# Altium footprint library Basic_fp_lib.PcbLib: 47 footprints (part 3 of 3)
Each footprint in its own frame and in the unit in brackets; x right, y up, seen from the top. Pads: shape width x height; smd on the part's side, far side on the other; paste and mask are expansions set on the pad; w line width, h text height; cw(c..) or ccw(c..) is an arc to the next point about the centre after c.
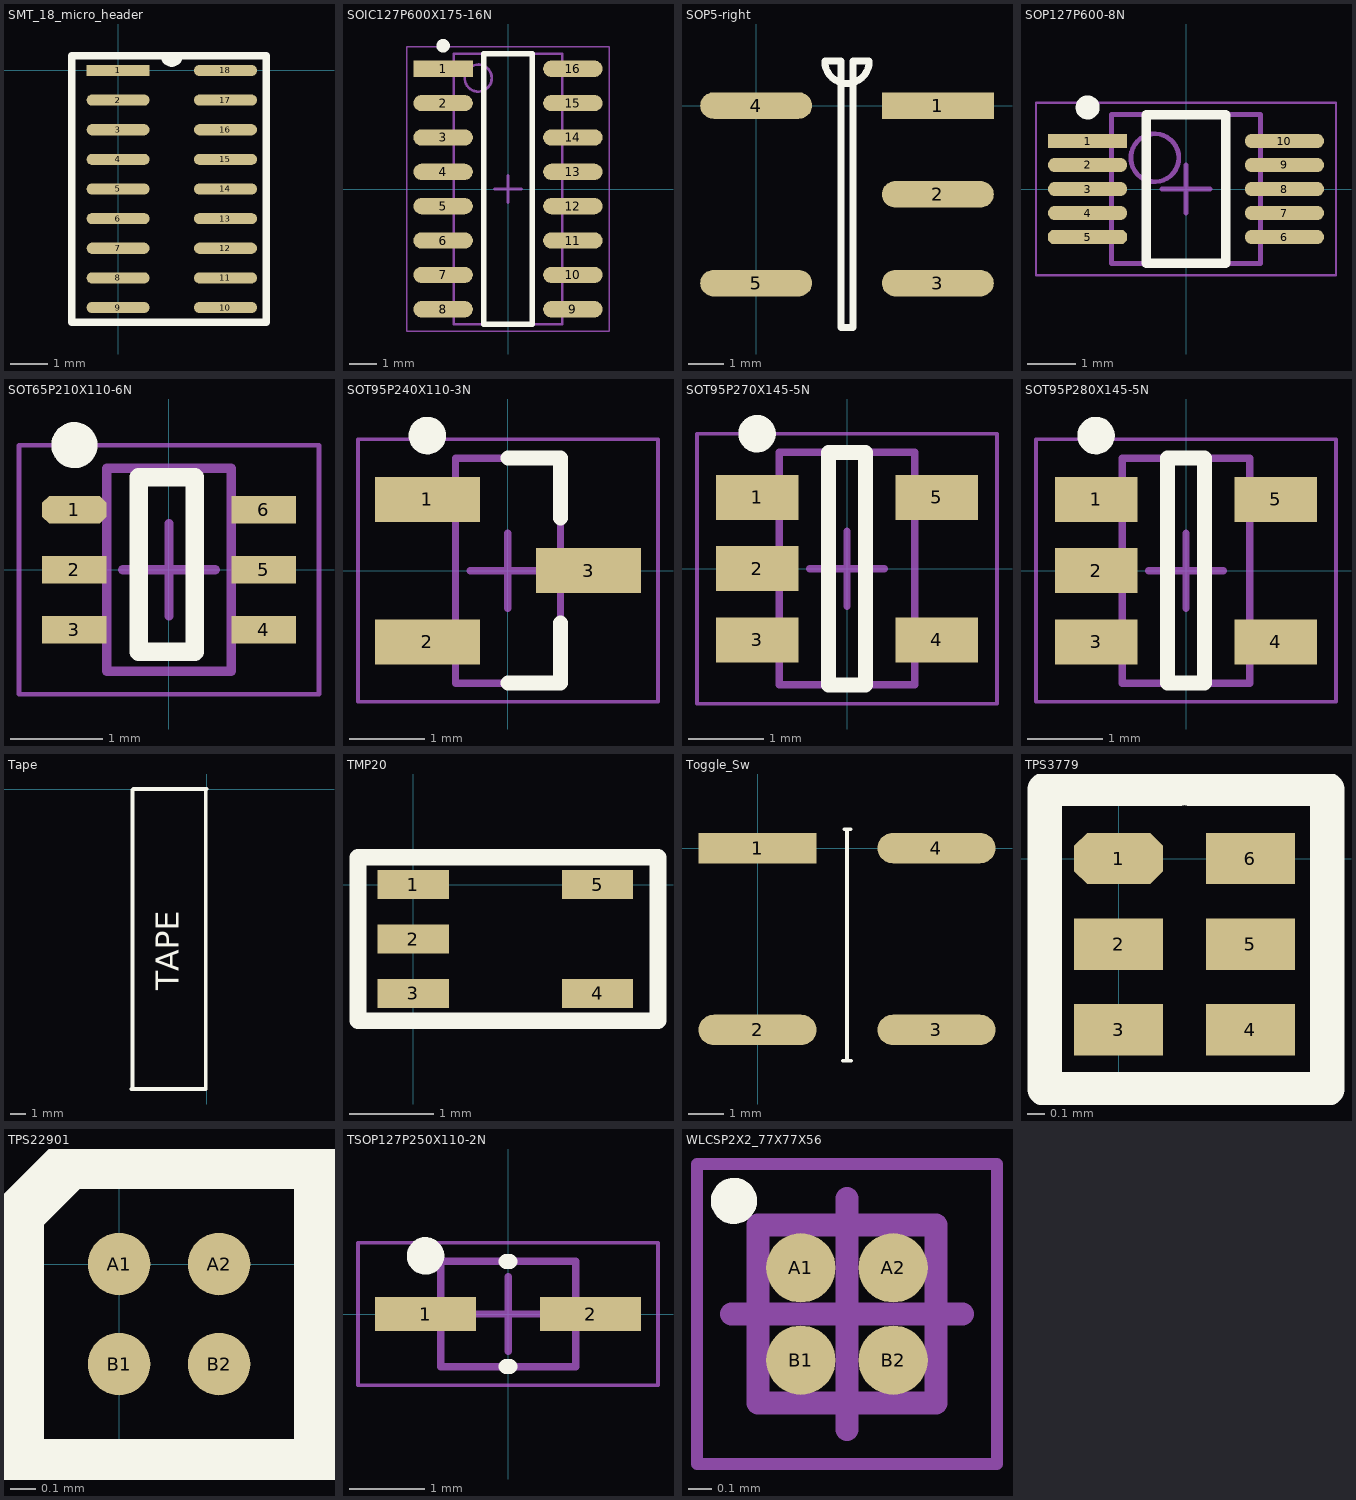
[diagram p2: the footprints below, top view; thin cyan lines are the x and y axes]

## SMT_18_micro_header [mm]
pads (18):
  rect 1.7x0.3 smd: 1(0,0)
  oval 1.7x0.3 smd: 2(0,-0.8) 3(0,-1.6) 4(0,-2.4) 5(0,-3.2) 6(0,-4) 7(0,-4.8) 8(0,-5.6) 9(0,-6.4) 10(2.9,-6.4) 11(2.9,-5.6) 12(2.9,-4.8) 13(2.9,-4) 14(2.9,-3.2) 15(2.9,-2.4) 16(2.9,-1.6) 17(2.9,-0.8) 18(2.9,0)
Top Overlay:
  lines w0.2: -1.25,-6.8 4,-6.8 4,0.4 1.25,0.4 ccw(c1.45,0.4) 1.65,0.4 -1.25,0.4 -1.25,-6.8

## SOIC127P600X175-16N [mm] "SOIC, 16-Leads, Body 9.90x3.90mm, Pitch 1.27mm, IPC Medium Density"
height 1.75
pads (16):
  rect 2.2x0.6 smd: 1(-2.4,4.445)
  oval 2.2x0.6 smd: 2(-2.4,3.175) 3(-2.4,1.905) 4(-2.4,0.635) 5(-2.4,-0.635) 6(-2.4,-1.905) 7(-2.4,-3.175) 8(-2.4,-4.445) 9(2.4,-4.445) 10(2.4,-3.175) 11(2.4,-1.905) 12(2.4,-0.635) 13(2.4,0.635) 14(2.4,1.905) 15(2.4,3.175) 16(2.4,4.445)
Top Overlay:
  circle w0.25: c-2.4,5.295 r0.125
  lines w0.2: -0.9,-5 0.9,-5 0.9,5 -0.9,5 -0.9,-5
Mechanical 13:
  circle w0.1: c-1.1,4.1 r0.5
  lines w0.1: -2,-5 2,-5 2,5 -2,5 -2,-5
Mechanical 15:
  lines w0.05: -3.75,-5.25 3.75,-5.25 3.75,5.25 -3.75,5.25 -3.75,-5.25
  lines w0.1: -0.5,0 0.5,0 ; 0,-0.5 0,0.5
3D body: height 1.75, standoff 0.1, extent -2,-5 2,5

## SOP5-right [mm]
pads (5):
  rect 3.2x0.76 smd: 1(5.2,0)
  oval 3.2x0.76 smd: 2(5.2,-2.54) 3(5.2,-5.08) 4(0,0) 5(0,-5.08)
Top Overlay:
  lines w0.2: 1.965,1.27 ccw(c2.6,1.27) 3.235,1.27 2.765,1.27 2.765,-6.35 2.435,-6.35 2.435,1.27 1.965,1.27

## SOP127P600-8N [mm] "Used for TPL5000"
height 1.1
pads (10):
  rect 1.65x0.3 smd: 1(-2.05,1)
  oval 1.65x0.3 smd: 2(-2.05,0.5) 3(-2.05,0) 4(-2.05,-0.5) 6(2.05,-1) 7(2.05,-0.5) 8(2.05,0) 9(2.05,0.5) 10(2.05,1)
  oct 1.65x0.3 smd: 5(-2.05,-1)
Top Overlay:
  circle w0.25: c-2.05,1.7 r0.125
  lines w0.2: -0.825,-1.55 0.825,-1.55 0.825,1.55 -0.825,1.55 -0.825,-1.55
Mechanical 13:
  circle w0.1: c-0.65,0.65 r0.5
  lines w0.1: -1.55,-1.55 1.55,-1.55 1.55,1.55 -1.55,1.55 -1.55,-1.55
Mechanical 15:
  lines w0.05: -3.125,-1.8 3.125,-1.8 3.125,1.8 -3.125,1.8 -3.125,-1.8
  lines w0.1: -0.5,0 0.5,0 ; 0,-0.5 0,0.5
3D body: height 1.1, standoff 0.05, extent -1.55,-1.55 1.55,1.55

## SOT65P210X110-6N [mm] "SOT23, 6-Leads, Body 2.00x2.10mm, Pitch 0.65mm, IPC Medium Density"
height 1.1
pads (6):
  oct 0.7x0.3 smd: 1(-1.025,0.65)
  rect 0.7x0.3 smd: 2(-1.025,0) 3(-1.025,-0.65) 4(1.025,-0.65) 5(1.025,0) 6(1.025,0.65)
Top Overlay:
  circle w0.25: c-1.025,1.35 r0.125
  lines w0.2: -0.33,-0.889 -0.33,1 0.279,1 0.279,-0.889 -0.33,-0.889
Mechanical 13:
  lines w0.1: -0.675,-1.1 0.675,-1.1 0.675,1.1 -0.675,1.1 -0.675,-1.1
Mechanical 15:
  lines w0.05: -1.625,-1.35 1.625,-1.35 1.625,1.35 -1.625,1.35 -1.625,-1.35
  lines w0.1: -0.5,0 0.5,0 ; 0,-0.5 0,0.5
3D body: height 1.1, standoff 0.1, extent -0.675,-1.1 0.675,1.1

## SOT95P240X110-3N [mm] "SOT23, 3-Leads, Body 2.90x2.40mm, Pitch 0.95mm, IPC Medium Density"
height 1.1
pads (3):
  rect 1.4x0.6 smd: 1(-1.075,0.95) 2(-1.075,-0.95) 3(1.075,0)
Top Overlay:
  circle w0.25: c-1.075,1.8 r0.125
  lines w0.2: 0,-1.5 0.7,-1.5 0.7,-0.7 ; 0,1.5 0.7,1.5 0.7,0.7
Mechanical 13:
  lines w0.1: -0.7,-1.5 -0.7,1.5 0.7,1.5 0.7,-1.5 -0.7,-1.5
Mechanical 15:
  lines w0.05: -2,-1.75 -2,1.75 2,1.75 2,-1.75 -2,-1.75
  lines w0.1: -0.5,0 0.5,0 ; 0,-0.5 0,0.5
3D body: height 1.1, standoff 0.05, extent -0.7,-1.5 0.7,1.5

## SOT95P270X145-5N [mm] "SOT23, 5-Leads, Body 2.90x2.70mm, Pitch 0.95mm, IPC Medium Density"
height 1.45
pads (5):
  rect 1.1x0.6 smd: 1(-1.2,0.95) 2(-1.2,0) 3(-1.2,-0.95) 4(1.2,-0.95) 5(1.2,0.95)
Top Overlay:
  circle w0.25: c-1.2,1.8 r0.125
  lines w0.2: -0.25,-1.55 -0.25,1.55 0.25,1.55 0.25,-1.55 -0.25,-1.55
Mechanical 13:
  lines w0.1: -0.9,-1.55 0.9,-1.55 0.9,1.55 -0.9,1.55 -0.9,-1.55
Mechanical 15:
  lines w0.05: -2,-1.8 2,-1.8 2,1.8 -2,1.8 -2,-1.8
  lines w0.1: -0.5,0 0.5,0 ; 0,-0.5 0,0.5
3D body: height 1.45, standoff 0.15, extent -0.9,-1.55 0.9,1.55

## SOT95P280X145-5N [mm] "SOT23, 5-Leads, Body 2.90x2.80mm, Pitch 0.95mm, IPC Medium Density"
height 1.45
pads (5):
  rect 1.1x0.6 smd: 1(-1.2,0.95) 2(-1.2,0) 3(-1.2,-0.95) 4(1.2,-0.95) 5(1.2,0.95)
Top Overlay:
  circle w0.25: c-1.2,1.8 r0.125
  lines w0.2: -0.25,-1.5 -0.25,1.5 0.25,1.5 0.25,-1.5 -0.25,-1.5
Mechanical 13:
  lines w0.1: -0.85,-1.5 0.85,-1.5 0.85,1.5 -0.85,1.5 -0.85,-1.5
Mechanical 15:
  lines w0.05: -2,-1.75 2,-1.75 2,1.75 -2,1.75 -2,-1.75
  lines w0.1: -0.5,0 0.5,0 ; 0,-0.5 0,0.5
3D body: height 1.45, standoff 0, extent -0.85,-1.5 0.85,1.5

## Tape [mm]
height 6
Top Overlay:
  lines w0.254: -4.978,-19.914 -0.051,-19.914 -0.051,-0.051 0,0 -4.851,0 -4.902,-0.051 -4.902,-19.837 -4.978,-19.914
  text "TAPE" at -1.829,-13.36 h1.52

## TMP20 [mm]
pads (5):
  rect 0.85x0.35 smd: 1(0,0) 2(0,-0.65) 3(0,-1.3) 4(2.2,-1.3) 5(2.2,0)
Top Overlay:
  lines w0.2: 0.938,0.325 2.921,0.325 2.921,-1.625 -0.66,-1.625 -0.66,0.325 1.262,0.325

## Toggle_Sw [mm]
pads (4):
  rect 3.3x0.85 smd: 1(0,0)
  oval 3.3x0.85 smd: 2(0,-5.08) 3(5,-5.08) 4(5,0)
Top Overlay:
  lines w0.1: 2.385,-5.944 2.615,-5.944 ; 2.424,0.525 2.602,0.525 ; 2.5,-5.918 2.5,0.5

## TPS3779 [mm]
pads (6):
  oct 0.52x0.3 smd mask+0.05: 1(0,0)
  rect 0.52x0.3 smd mask+0.05: 2(0,-0.5) 3(0,-1) 4(0.77,-1) 5(0.77,-0.5) 6(0.77,0)
Top Overlay:
  lines w0.2: 0.354,0.406 -0.432,0.406 -0.432,-1.346 1.219,-1.346 1.219,0.406 0.416,0.406

## TPS22901 [mm]
pads (4):
  round 0.25 smd: A1(0,0) A2(0.4,0) B1(0,-0.4) B2(0.4,-0.4)
Top Overlay:
  lines w0.2: -0.4,-0.8 -0.4,0.2 -0.2,0.4 0.8,0.4 0.8,-0.8 -0.4,-0.8

## TSOP127P250X110-2N [mm] "TSOP, 2-Leads, Body 1.30x1.70mm, Pitch 1.27mm, IPC Medium Density"
height 1.1
pads (2):
  rect 1.35x0.45 smd: 1(-1.1,0) 2(1.1,0)
Top Overlay:
  circle w0.25: c-1.1,0.775 r0.125
  lines w0.2: -0.025,-0.7 0.025,-0.7 ; -0.025,0.7 0.025,0.7
Mechanical 13:
  lines w0.1: -0.9,-0.7 -0.9,0.7 0.9,0.7 0.9,-0.7 -0.9,-0.7
Mechanical 15:
  lines w0.05: -2,-0.95 -2,0.95 2,0.95 2,-0.95 -2,-0.95
  lines w0.1: -0.5,0 0.5,0 ; 0,-0.5 0,0.5
3D body: height 1.1, standoff 0.1, extent -0.9,-0.7 0.9,0.7

## WLCSP2X2_77X77X56 [mm] "BGA, 4-Leads, Body 0.77x0.77mmx0.56mm, Pitch 0.40mm"
height 0.56
pads (4):
  round 0.3 smd mask+0.064: A1(-2.36,2.36) A2(-1.96,2.36) B1(-2.36,1.96) B2(-1.96,1.96)
Top Overlay:
  circle w0.1: c-2.65,2.65 r0.05
Mechanical 13:
  lines w0.1: -2.545,1.775 -2.545,2.545 -1.775,2.545 -1.775,1.775 -2.545,1.775
Mechanical 15:
  lines w0.05: -2.81,1.51 -2.81,2.81 -1.51,2.81 -1.51,1.51 -2.81,1.51
  lines w0.1: -2.66,2.16 -1.66,2.16 ; -2.16,1.66 -2.16,2.66
3D body: height 0.56, standoff 0.17, extent -2.545,1.775 -1.775,2.545